# Altium schematic symbol library HX1188NLT.SchLib: 1 symbol
Pins are listed as number, name and electrical type; pins without a type are passive.

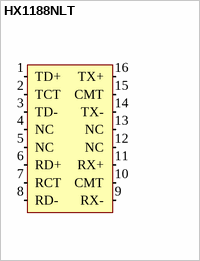
[diagram p0: symbol HX1188NLT]

## HX1188NLT
designator U?
Manufacturer_id: 1; idFuse: 3; Name: 3568 Mini Fuse Holder; Drawer_id: 1
pins: 1 TD+ (in), 2 TCT (in), 3 TD- (in), 4 NC (in), 5 NC (in), 6 RD+ (in), 7 RCT (in), 8 RD- (in), 9 RX- (in), 10 CMT (in), 11 RX+ (in), 12 NC (in), 13 NC (in), 14 TX- (in), 15 CMT (in), 16 TX+ (in)